# Altium schematic symbol library WCAP-FTX2.SchLib: 108 symbols (part 2 of 2)
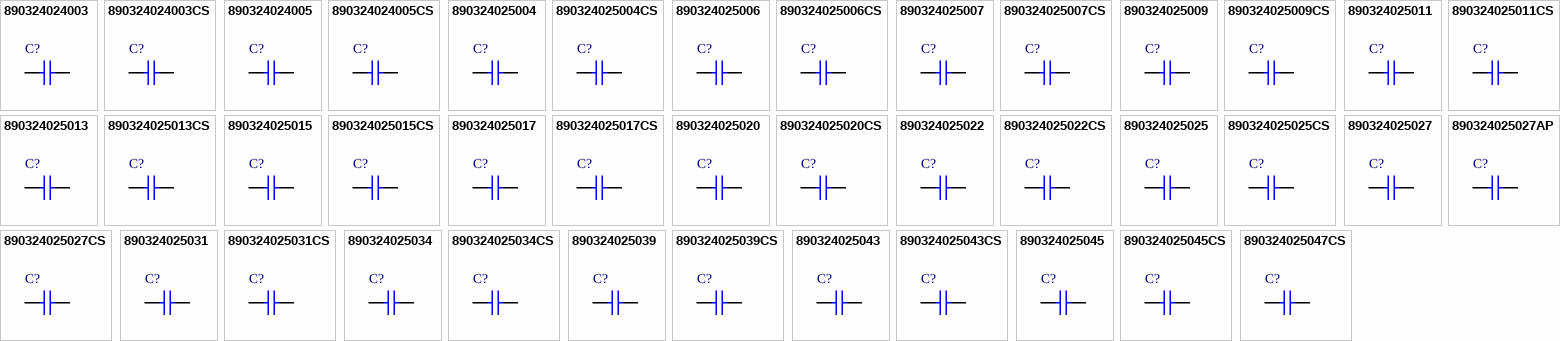
[diagram p3: symbols 890324024003 to 890324025047CS]

## 890324025015
designator C?, comment 82nF  (value not drawn)
WCAP-FTX2 Film Capacitor, THT, 18mm x 6mm x 12mm, 82nF, 275V; Manufacturer Part Number: 890324025015; Manufacturer: Wurth Elektronik; Dissipation Factor @1kHz: 0.1%; Insulation Resistance: 30Gohm; Rate of Voltage Rise: 290V/us; Rated Voltage: 275V (AC); Safety Class: X2; Category: Film Capacitors; Match Code: WCAP-FTX2; ComponentLink1Description: Website Link; ComponentLink1URL: https://www.we-online.com; ComponentLink2Description: Datasheet Link; ComponentLink2URL: https://www.we-online.com/components/products/datasheet/890324025015; Mount: Through Hole; Operating Temperature Min: -40degC; Operating Temperature Max: 105degC; Packaging: Carton; Length: 18mm; Width: 6mm; Height: 12mm; Capacitance: 82nF; Lead Pitch: 15mm
footprint WCAP-FTX2_L18W6H12
simulation model 890324025015_82nF
pins: 1, 2

## 890324025015CS
designator C?, comment 82nF  (value not drawn)
WCAP-FTX2 Film Capacitor, THT, 18mm x 6mm x 12mm, 82nF, 275V; Manufacturer Part Number: 890324025015CS; Manufacturer: Wurth Elektronik; Dissipation Factor @1kHz: 0.1%; Insulation Resistance: 30Gohm; Rate of Voltage Rise: 290V/us; Rated Voltage: 275V (AC); Safety Class: X2; Category: Film Capacitors; Match Code: WCAP-FTX2; ComponentLink1Description: Website Link; ComponentLink1URL: https://www.we-online.com; ComponentLink2Description: Datasheet Link; ComponentLink2URL: https://www.we-online.com/components/products/datasheet/890324025015CS; Mount: Through Hole; Operating Temperature Min: -40degC; Operating Temperature Max: 105degC; Packaging: Carton; Length: 18mm; Width: 6mm; Height: 12mm; Capacitance: 82nF; Lead Pitch: 15mm
footprint WCAP-FTX2_L18W6H12
simulation model 890324025015CS_82nF
pins: 1, 2

## 890324025017
designator C?, comment 100nF  (value not drawn)
WCAP-FTX2 Film Capacitor, THT, 18mm x 6mm x 12mm, 100nF, 275V; Manufacturer Part Number: 890324025017; Manufacturer: Wurth Elektronik; Dissipation Factor @1kHz: 0.1%; Insulation Resistance: 30Gohm; Rate of Voltage Rise: 300V/us; Rated Voltage: 275V (AC); Safety Class: X2; Category: Film Capacitors; Match Code: WCAP-FTX2; ComponentLink1Description: Website Link; ComponentLink1URL: https://www.we-online.com; ComponentLink2Description: Datasheet Link; ComponentLink2URL: https://www.we-online.com/components/products/datasheet/890324025017; Mount: Through Hole; Operating Temperature Min: -40degC; Operating Temperature Max: 105degC; Packaging: Carton; Length: 18mm; Width: 6mm; Height: 12mm; Capacitance: 100nF; Lead Pitch: 15mm
footprint WCAP-FTX2_L18W6H12
simulation model 890324025017_100nF
pins: 1, 2

## 890324025017CS
designator C?, comment 100nF  (value not drawn)
WCAP-FTX2 Film Capacitor, THT, 18mm x 6mm x 12mm, 100nF, 275V; Manufacturer Part Number: 890324025017CS; Manufacturer: Wurth Elektronik; Dissipation Factor @1kHz: 0.1%; Insulation Resistance: 30Gohm; Rate of Voltage Rise: 300V/us; Rated Voltage: 275V (AC); Safety Class: X2; Category: Film Capacitors; Match Code: WCAP-FTX2; ComponentLink1Description: Website Link; ComponentLink1URL: https://www.we-online.com; ComponentLink2Description: Datasheet Link; ComponentLink2URL: https://www.we-online.com/components/products/datasheet/890324025017CS; Mount: Through Hole; Operating Temperature Min: -40degC; Operating Temperature Max: 105degC; Packaging: Carton; Length: 18mm; Width: 6mm; Height: 12mm; Capacitance: 100nF; Lead Pitch: 15mm
footprint WCAP-FTX2_L18W6H12
simulation model 890324025017CS_100nF
pins: 1, 2

## 890324025020
designator C?, comment 120nF  (value not drawn)
WCAP-FTX2 Film Capacitor, THT, 18mm x 7.5mm x 13.5mm, 120nF, 275V; Manufacturer Part Number: 890324025020; Manufacturer: Wurth Elektronik; Dissipation Factor @1kHz: 0.1%; Insulation Resistance: 30Gohm; Rate of Voltage Rise: 300V/us; Rated Voltage: 275V (AC); Safety Class: X2; Category: Film Capacitors; Match Code: WCAP-FTX2; ComponentLink1Description: Website Link; ComponentLink1URL: https://www.we-online.com; ComponentLink2Description: Datasheet Link; ComponentLink2URL: https://www.we-online.com/components/products/datasheet/890324025020; Mount: Through Hole; Operating Temperature Min: -40degC; Operating Temperature Max: 105degC; Packaging: Carton; Length: 18mm; Width: 7.5mm; Height: 13.5mm; Capacitance: 120nF; Lead Pitch: 15mm
footprint WCAP-FTX2_L18W7.5H13.5
simulation model 890324025020_120nF
pins: 1, 2

## 890324025020CS
designator C?, comment 120nF  (value not drawn)
WCAP-FTX2 Film Capacitor, THT, 18mm x 7.5mm x 13.5mm, 120nF, 275V; Manufacturer Part Number: 890324025020CS; Manufacturer: Wurth Elektronik; Dissipation Factor @1kHz: 0.1%; Insulation Resistance: 30Gohm; Rate of Voltage Rise: 300V/us; Rated Voltage: 275V (AC); Safety Class: X2; Category: Film Capacitors; Match Code: WCAP-FTX2; ComponentLink1Description: Website Link; ComponentLink1URL: https://www.we-online.com; ComponentLink2Description: Datasheet Link; ComponentLink2URL: https://www.we-online.com/components/products/datasheet/890324025020CS; Mount: Through Hole; Operating Temperature Min: -40degC; Operating Temperature Max: 105degC; Packaging: Carton; Length: 18mm; Width: 7.5mm; Height: 13.5mm; Capacitance: 120nF; Lead Pitch: 15mm
footprint WCAP-FTX2_L18W7.5H13.5
simulation model 890324025020CS_120nF
pins: 1, 2

## 890324025022
designator C?, comment 150nF  (value not drawn)
WCAP-FTX2 Film Capacitor, THT, 18mm x 6mm x 12mm, 150nF, 275V; Manufacturer Part Number: 890324025022; Manufacturer: Wurth Elektronik; Dissipation Factor @1kHz: 0.1%; Insulation Resistance: 30Gohm; Rate of Voltage Rise: 210V/us; Rated Voltage: 275V (AC); Safety Class: X2; Category: Film Capacitors; Match Code: WCAP-FTX2; ComponentLink1Description: Website Link; ComponentLink1URL: https://www.we-online.com; ComponentLink2Description: Datasheet Link; ComponentLink2URL: https://www.we-online.com/components/products/datasheet/890324025022; Mount: Through Hole; Operating Temperature Min: -40degC; Operating Temperature Max: 105degC; Packaging: Carton; Length: 18mm; Width: 6mm; Height: 12mm; Capacitance: 150nF; Lead Pitch: 15mm
footprint WCAP-FTX2_L18W6H12
simulation model 890324025022_150nF
pins: 1, 2

## 890324025022CS
designator C?, comment 150nF  (value not drawn)
WCAP-FTX2 Film Capacitor, THT, 18mm x 6mm x 12mm, 150nF, 275V; Manufacturer Part Number: 890324025022CS; Manufacturer: Wurth Elektronik; Dissipation Factor @1kHz: 0.1%; Insulation Resistance: 30Gohm; Rate of Voltage Rise: 210V/us; Rated Voltage: 275V (AC); Safety Class: X2; Category: Film Capacitors; Match Code: WCAP-FTX2; ComponentLink1Description: Website Link; ComponentLink1URL: https://www.we-online.com; ComponentLink2Description: Datasheet Link; ComponentLink2URL: https://www.we-online.com/components/products/datasheet/890324025022CS; Mount: Through Hole; Operating Temperature Min: -40degC; Operating Temperature Max: 105degC; Packaging: Carton; Length: 18mm; Width: 6mm; Height: 12mm; Capacitance: 150nF; Lead Pitch: 15mm
footprint WCAP-FTX2_L18W6H12
simulation model 890324025022CS_150nF
pins: 1, 2

## 890324025025
designator C?, comment 180nF  (value not drawn)
WCAP-FTX2 Film Capacitor, THT, 18mm x 6mm x 12mm, 180nF, 275V; Manufacturer Part Number: 890324025025; Manufacturer: Wurth Elektronik; Dissipation Factor @1kHz: 0.1%; Insulation Resistance: 30Gohm; Rate of Voltage Rise: 230V/us; Rated Voltage: 275V (AC); Safety Class: X2; Category: Film Capacitors; Match Code: WCAP-FTX2; ComponentLink1Description: Website Link; ComponentLink1URL: https://www.we-online.com; ComponentLink2Description: Datasheet Link; ComponentLink2URL: https://www.we-online.com/components/products/datasheet/890324025025; Mount: Through Hole; Operating Temperature Min: -40degC; Operating Temperature Max: 105degC; Packaging: Carton; Length: 18mm; Width: 6mm; Height: 12mm; Capacitance: 180nF; Lead Pitch: 15mm
footprint WCAP-FTX2_L18W6H12
simulation model 890324025025_180nF
pins: 1, 2

## 890324025025CS
designator C?, comment 180nF  (value not drawn)
WCAP-FTX2 Film Capacitor, THT, 18mm x 6mm x 12mm, 180nF, 275V; Manufacturer Part Number: 890324025025CS; Manufacturer: Wurth Elektronik; Dissipation Factor @1kHz: 0.1%; Insulation Resistance: 30Gohm; Rate of Voltage Rise: 230V/us; Rated Voltage: 275V (AC); Safety Class: X2; Category: Film Capacitors; Match Code: WCAP-FTX2; ComponentLink1Description: Website Link; ComponentLink1URL: https://www.we-online.com; ComponentLink2Description: Datasheet Link; ComponentLink2URL: https://www.we-online.com/components/products/datasheet/890324025025CS; Mount: Through Hole; Operating Temperature Min: -40degC; Operating Temperature Max: 105degC; Packaging: Carton; Length: 18mm; Width: 6mm; Height: 12mm; Capacitance: 180nF; Lead Pitch: 15mm
footprint WCAP-FTX2_L18W6H12
simulation model 890324025025CS_180nF
pins: 1, 2

## 890324025027
designator C?, comment 220nF  (value not drawn)
WCAP-FTX2 Film Capacitor, THT, 18mm x 6mm x 11.5mm, 220nF, 275V; Manufacturer Part Number: 890324025027; Manufacturer: Wurth Elektronik; Dissipation Factor @1kHz: 0.1%; Insulation Resistance: 30Gohm; Rate of Voltage Rise: 180V/us; Rated Voltage: 275V (AC); Safety Class: X2; Category: Film Capacitors; Match Code: WCAP-FTX2; ComponentLink1Description: Website Link; ComponentLink1URL: https://www.we-online.com; ComponentLink2Description: Datasheet Link; ComponentLink2URL: https://www.we-online.com/components/products/datasheet/890324025027; Mount: Through Hole; Operating Temperature Min: -40degC; Operating Temperature Max: 105degC; Packaging: Carton; Length: 18mm; Width: 6mm; Height: 11.5mm; Capacitance: 220nF; Lead Pitch: 15mm
footprint WCAP-FTX2_L18W6H11.5
simulation model 890324025027_220nF
pins: 1, 2

## 890324025027AP
designator C?, comment 220nF  (value not drawn)
WCAP-FTX2 Film Capacitor, THT, 18mm x 6mm x 11.5mm, 220nF, 275V; Manufacturer Part Number: 890324025027AP; Manufacturer: Wurth Elektronik; Dissipation Factor @1kHz: 0.1%; Insulation Resistance: 30Gohm; Rate of Voltage Rise: 180V/us; Rated Voltage: 275V (AC); Safety Class: X2; Category: Film Capacitors; Match Code: WCAP-FTX2; ComponentLink1Description: Website Link; ComponentLink1URL: https://www.we-online.com; ComponentLink2Description: Datasheet Link; ComponentLink2URL: https://www.we-online.com/components/products/datasheet/890324025027AP; Mount: Through Hole; Operating Temperature Min: -40degC; Operating Temperature Max: 105degC; Packaging: Ammo Pack; Length: 18mm; Width: 6mm; Height: 11.5mm; Capacitance: 220nF; Lead Pitch: 15mm
footprint WCAP-FTX2_L18W6H11.5
simulation model 890324025027AP_220nF
pins: 1, 2

## 890324025027CS
designator C?, comment 220nF  (value not drawn)
WCAP-FTX2 Film Capacitor, THT, 18mm x 6mm x 11.5mm, 220nF, 275V; Manufacturer Part Number: 890324025027CS; Manufacturer: Wurth Elektronik; Dissipation Factor @1kHz: 0.1%; Insulation Resistance: 30Gohm; Rate of Voltage Rise: 180V/us; Rated Voltage: 275V (AC); Safety Class: X2; Category: Film Capacitors; Match Code: WCAP-FTX2; ComponentLink1Description: Website Link; ComponentLink1URL: https://www.we-online.com; ComponentLink2Description: Datasheet Link; ComponentLink2URL: https://www.we-online.com/components/products/datasheet/890324025027CS; Mount: Through Hole; Operating Temperature Min: -40degC; Operating Temperature Max: 105degC; Packaging: Carton; Length: 18mm; Width: 6mm; Height: 11.5mm; Capacitance: 220nF; Lead Pitch: 15mm
footprint WCAP-FTX2_L18W6H11.5
simulation model 890324025027CS_220nF
pins: 1, 2

## 890324025031
designator C?, comment 270nF  (value not drawn)
WCAP-FTX2 Film Capacitor, THT, 18mm x 7.5mm x 14.5mm, 270nF, 275V; Manufacturer Part Number: 890324025031; Manufacturer: Wurth Elektronik; Dissipation Factor @1kHz: 0.1%; Insulation Resistance: 30Gohm; Rate of Voltage Rise: 250V/us; Rated Voltage: 275V (AC); Safety Class: X2; Category: Film Capacitors; Match Code: WCAP-FTX2; ComponentLink1Description: Website Link; ComponentLink1URL: https://www.we-online.com; ComponentLink2Description: Datasheet Link; ComponentLink2URL: https://www.we-online.com/components/products/datasheet/890324025031; Mount: Through Hole; Operating Temperature Min: -40degC; Operating Temperature Max: 105degC; Packaging: Carton; Length: 18mm; Width: 7.5mm; Height: 14.5mm; Capacitance: 270nF; Lead Pitch: 15mm
footprint WCAP-FTX2_L18W7.5H14.5
simulation model 890324025031_270nF
pins: 1, 2

## 890324025031CS
designator C?, comment 270nF  (value not drawn)
WCAP-FTX2 Film Capacitor, THT, 18mm x 7.5mm x 14.5mm, 270nF, 275V; Manufacturer Part Number: 890324025031CS; Manufacturer: Wurth Elektronik; Dissipation Factor @1kHz: 0.1%; Insulation Resistance: 30Gohm; Rate of Voltage Rise: 250V/us; Rated Voltage: 275V (AC); Safety Class: X2; Category: Film Capacitors; Match Code: WCAP-FTX2; ComponentLink1Description: Website Link; ComponentLink1URL: https://www.we-online.com; ComponentLink2Description: Datasheet Link; ComponentLink2URL: https://www.we-online.com/components/products/datasheet/890324025031CS; Mount: Through Hole; Operating Temperature Min: -40degC; Operating Temperature Max: 105degC; Packaging: Carton; Length: 18mm; Width: 7.5mm; Height: 14.5mm; Capacitance: 270nF; Lead Pitch: 15mm
footprint WCAP-FTX2_L18W7.5H14.5
simulation model 890324025031CS_270nF
pins: 1, 2

## 890324025034
designator C?, comment 330nF  (value not drawn)
WCAP-FTX2 Film Capacitor, THT, 18mm x 8.5mm x 14.5mm, 330nF, 275V; Manufacturer Part Number: 890324025034; Manufacturer: Wurth Elektronik; Dissipation Factor @1kHz: 0.1%; Insulation Resistance: 30Gohm; Rate of Voltage Rise: 260V/us; Rated Voltage: 275V (AC); Safety Class: X2; Category: Film Capacitors; Match Code: WCAP-FTX2; ComponentLink1Description: Website Link; ComponentLink1URL: https://www.we-online.com; ComponentLink2Description: Datasheet Link; ComponentLink2URL: https://www.we-online.com/components/products/datasheet/890324025034; Mount: Through Hole; Operating Temperature Min: -40degC; Operating Temperature Max: 105degC; Packaging: Carton; Length: 18mm; Width: 8.5mm; Height: 14.5mm; Capacitance: 330nF; Lead Pitch: 15mm
footprint WCAP-FTX2_L18W8.5H14.5
simulation model 890324025034_330nF
pins: 1, 2

## 890324025034CS
designator C?, comment 330nF  (value not drawn)
WCAP-FTX2 Film Capacitor, THT, 18mm x 8.5mm x 14.5mm, 330nF, 275V; Manufacturer Part Number: 890324025034CS; Manufacturer: Wurth Elektronik; Dissipation Factor @1kHz: 0.1%; Insulation Resistance: 30Gohm; Rate of Voltage Rise: 260V/us; Rated Voltage: 275V (AC); Safety Class: X2; Category: Film Capacitors; Match Code: WCAP-FTX2; ComponentLink1Description: Website Link; ComponentLink1URL: https://www.we-online.com; ComponentLink2Description: Datasheet Link; ComponentLink2URL: https://www.we-online.com/components/products/datasheet/890324025034CS; Mount: Through Hole; Operating Temperature Min: -40degC; Operating Temperature Max: 105degC; Packaging: Carton; Length: 18mm; Width: 8.5mm; Height: 14.5mm; Capacitance: 330nF; Lead Pitch: 15mm
footprint WCAP-FTX2_L18W8.5H14.5
simulation model 890324025034CS_330nF
pins: 1, 2

## 890324025039
designator C?, comment 470nF  (value not drawn)
WCAP-FTX2 Film Capacitor, THT, 18mm x 8mm x 14mm, 470nF, 275V; Manufacturer Part Number: 890324025039; Manufacturer: Wurth Elektronik; Dissipation Factor @1kHz: 0.1%; Insulation Resistance: 21.28Gohm; Rate of Voltage Rise: 220V/us; Rated Voltage: 275V (AC); Safety Class: X2; Category: Film Capacitors; Match Code: WCAP-FTX2; ComponentLink1Description: Website Link; ComponentLink1URL: https://www.we-online.com; ComponentLink2Description: Datasheet Link; ComponentLink2URL: https://www.we-online.com/components/products/datasheet/890324025039; Mount: Through Hole; Operating Temperature Min: -40degC; Operating Temperature Max: 105degC; Packaging: Carton; Length: 18mm; Width: 8mm; Height: 14mm; Capacitance: 470nF; Lead Pitch: 15mm
footprint WCAP-FTX2_L18W8H14
simulation model 890324025039_470nF
pins: 1, 2

## 890324025039CS
designator C?, comment 470nF  (value not drawn)
WCAP-FTX2 Film Capacitor, THT, 18mm x 8mm x 14mm, 470nF, 275V; Manufacturer Part Number: 890324025039CS; Manufacturer: Wurth Elektronik; Dissipation Factor @1kHz: 0.1%; Insulation Resistance: 21.28Gohm; Rate of Voltage Rise: 220V/us; Rated Voltage: 275V (AC); Safety Class: X2; Category: Film Capacitors; Match Code: WCAP-FTX2; ComponentLink1Description: Website Link; ComponentLink1URL: https://www.we-online.com; ComponentLink2Description: Datasheet Link; ComponentLink2URL: https://www.we-online.com/components/products/datasheet/890324025039CS; Mount: Through Hole; Operating Temperature Min: -40degC; Operating Temperature Max: 105degC; Packaging: Carton; Length: 18mm; Width: 8mm; Height: 14mm; Capacitance: 470nF; Lead Pitch: 15mm
footprint WCAP-FTX2_L18W8H14
simulation model 890324025039CS_470nF
pins: 1, 2

## 890324025043
designator C?, comment 560nF  (value not drawn)
WCAP-FTX2 Film Capacitor, THT, 18mm x 9mm x 15mm, 560nF, 275V; Manufacturer Part Number: 890324025043; Manufacturer: Wurth Elektronik; Dissipation Factor @1kHz: 0.1%; Insulation Resistance: 17.86Gohm; Rate of Voltage Rise: 220V/us; Rated Voltage: 275V (AC); Safety Class: X2; Category: Film Capacitors; Match Code: WCAP-FTX2; ComponentLink1Description: Website Link; ComponentLink1URL: https://www.we-online.com; ComponentLink2Description: Datasheet Link; ComponentLink2URL: https://www.we-online.com/components/products/datasheet/890324025043; Mount: Through Hole; Operating Temperature Min: -40degC; Operating Temperature Max: 105degC; Packaging: Carton; Length: 18mm; Width: 9mm; Height: 15mm; Capacitance: 560nF; Lead Pitch: 15mm
footprint WCAP-FTX2_L18W9H15
simulation model 890324025043_560nF
pins: 1, 2

## 890324025043CS
designator C?, comment 560nF  (value not drawn)
WCAP-FTX2 Film Capacitor, THT, 18mm x 9mm x 15mm, 560nF, 275V; Manufacturer Part Number: 890324025043CS; Manufacturer: Wurth Elektronik; Dissipation Factor @1kHz: 0.1%; Insulation Resistance: 17.86Gohm; Rate of Voltage Rise: 220V/us; Rated Voltage: 275V (AC); Safety Class: X2; Category: Film Capacitors; Match Code: WCAP-FTX2; ComponentLink1Description: Website Link; ComponentLink1URL: https://www.we-online.com; ComponentLink2Description: Datasheet Link; ComponentLink2URL: https://www.we-online.com/components/products/datasheet/890324025043CS; Mount: Through Hole; Operating Temperature Min: -40degC; Operating Temperature Max: 105degC; Packaging: Carton; Length: 18mm; Width: 9mm; Height: 15mm; Capacitance: 560nF; Lead Pitch: 15mm
footprint WCAP-FTX2_L18W9H15
simulation model 890324025043CS_560nF
pins: 1, 2

## 890324025045
designator C?, comment 680nF  (value not drawn)
WCAP-FTX2 Film Capacitor, THT, 18mm x 10mm x 16mm, 680nF, 275V; Manufacturer Part Number: 890324025045; Manufacturer: Wurth Elektronik; Dissipation Factor @1kHz: 0.1%; Insulation Resistance: 14.71Gohm; Rate of Voltage Rise: 230V/us; Rated Voltage: 275V (AC); Safety Class: X2; Category: Film Capacitors; Match Code: WCAP-FTX2; ComponentLink1Description: Website Link; ComponentLink1URL: https://www.we-online.com; ComponentLink2Description: Datasheet Link; ComponentLink2URL: https://www.we-online.com/components/products/datasheet/890324025045; Mount: Through Hole; Operating Temperature Min: -40degC; Operating Temperature Max: 105degC; Packaging: Carton; Length: 18mm; Width: 10mm; Height: 16mm; Capacitance: 680nF; Lead Pitch: 15mm
footprint WCAP-FTX2_L18W10H16
simulation model 890324025045_680nF
pins: 1, 2

## 890324025045CS
designator C?, comment 680nF  (value not drawn)
WCAP-FTX2 Film Capacitor, THT, 18mm x 10mm x 16mm, 680nF, 275V; Manufacturer Part Number: 890324025045CS; Manufacturer: Wurth Elektronik; Dissipation Factor @1kHz: 0.1%; Insulation Resistance: 14.71Gohm; Rate of Voltage Rise: 230V/us; Rated Voltage: 275V (AC); Safety Class: X2; Category: Film Capacitors; Match Code: WCAP-FTX2; ComponentLink1Description: Website Link; ComponentLink1URL: https://www.we-online.com; ComponentLink2Description: Datasheet Link; ComponentLink2URL: https://www.we-online.com/components/products/datasheet/890324025045CS; Mount: Through Hole; Operating Temperature Min: -40degC; Operating Temperature Max: 105degC; Packaging: Carton; Length: 18mm; Width: 10mm; Height: 16mm; Capacitance: 680nF; Lead Pitch: 15mm
footprint WCAP-FTX2_L18W10H16
simulation model 890324025045CS_680nF
pins: 1, 2

## 890324025047CS
designator C?, comment 820nF  (value not drawn)
WCAP-FTX2 Film Capacitor, THT, 18mm x 10mm x 17.5mm, 820nF, 275V; Manufacturer Part Number: 890324025047CS; Manufacturer: Wurth Elektronik; Dissipation Factor @1kHz: 0.1%; Insulation Resistance: 12.2Gohm; Rate of Voltage Rise: 230V/us; Rated Voltage: 275V (AC); Safety Class: X2; Category: Film Capacitors; Match Code: WCAP-FTX2; ComponentLink1Description: Website Link; ComponentLink1URL: https://www.we-online.com; ComponentLink2Description: Datasheet Link; ComponentLink2URL: https://www.we-online.com/components/products/datasheet/890324025047CS; Mount: Through Hole; Operating Temperature Min: -40degC; Operating Temperature Max: 105degC; Packaging: Carton; Length: 18mm; Width: 10mm; Height: 17.5mm; Capacitance: 820nF; Lead Pitch: 15mm
footprint WCAP-FTX2_L18W10H17.5
simulation model 890324025047CS_820nF
pins: 1, 2

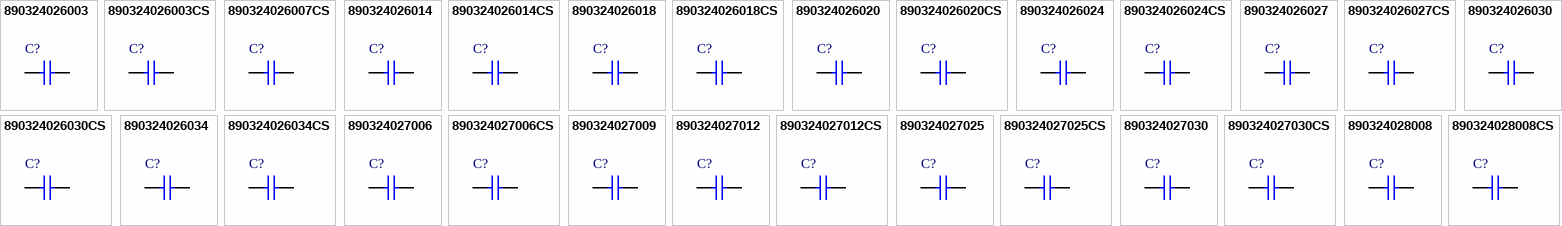
[diagram p2: symbols 890324026003 to 890324028008CS]

## 890324026003
designator C?, comment 220nF  (value not drawn)
WCAP-FTX2 Film Capacitor, THT, 26mm x 6mm x 15mm, 220nF, 275V; Manufacturer Part Number: 890324026003; Manufacturer: Wurth Elektronik; Dissipation Factor @1kHz: 0.1%; Insulation Resistance: 30Gohm; Rate of Voltage Rise: 160V/us; Rated Voltage: 275V (AC); Safety Class: X2; Category: Film Capacitors; Match Code: WCAP-FTX2; ComponentLink1Description: Website Link; ComponentLink1URL: https://www.we-online.com; ComponentLink2Description: Datasheet Link; ComponentLink2URL: https://www.we-online.com/components/products/datasheet/890324026003; Mount: Through Hole; Operating Temperature Min: -40degC; Operating Temperature Max: 105degC; Packaging: Carton; Length: 26mm; Width: 6mm; Height: 15mm; Capacitance: 220nF; Lead Pitch: 22.5mm
footprint WCAP-FTX2_L26W6H15
simulation model 890324026003_220nF
pins: 1, 2

## 890324026003CS
designator C?, comment 220nF  (value not drawn)
WCAP-FTX2 Film Capacitor, THT, 26mm x 6mm x 15mm, 220nF, 275V; Manufacturer Part Number: 890324026003CS; Manufacturer: Wurth Elektronik; Dissipation Factor @1kHz: 0.1%; Insulation Resistance: 30Gohm; Rate of Voltage Rise: 160V/us; Rated Voltage: 275V (AC); Safety Class: X2; Category: Film Capacitors; Match Code: WCAP-FTX2; ComponentLink1Description: Website Link; ComponentLink1URL: https://www.we-online.com; ComponentLink2Description: Datasheet Link; ComponentLink2URL: https://www.we-online.com/components/products/datasheet/890324026003CS; Mount: Through Hole; Operating Temperature Min: -40degC; Operating Temperature Max: 105degC; Packaging: Carton; Length: 26mm; Width: 6mm; Height: 15mm; Capacitance: 220nF; Lead Pitch: 22.5mm
footprint WCAP-FTX2_L26W6H15
simulation model 890324026003CS_220nF
pins: 1, 2

## 890324026007CS
designator C?, comment 330nF  (value not drawn)
WCAP-FTX2 Film Capacitor, THT, 26mm x 6mm x 12mm, 330nF, 275V; Manufacturer Part Number: 890324026007CS; Manufacturer: Wurth Elektronik; Dissipation Factor @1kHz: 0.1%; Insulation Resistance: 30Gohm; Rate of Voltage Rise: 140V/us; Rated Voltage: 275V (AC); Safety Class: X2; Category: Film Capacitors; Match Code: WCAP-FTX2; ComponentLink1Description: Website Link; ComponentLink1URL: https://www.we-online.com; ComponentLink2Description: Datasheet Link; ComponentLink2URL: https://www.we-online.com/components/products/datasheet/890324026007CS; Mount: Through Hole; Operating Temperature Min: -40degC; Operating Temperature Max: 105degC; Packaging: Carton; Length: 26mm; Width: 6mm; Height: 12mm; Capacitance: 330nF; Lead Pitch: 22.5mm
footprint WCAP-FTX2_L26W6H12
simulation model 890324026007CS_330nF
pins: 1, 2

## 890324026014
designator C?, comment 470nF  (value not drawn)
WCAP-FTX2 Film Capacitor, THT, 26mm x 7mm x 14.5mm, 470nF, 275V; Manufacturer Part Number: 890324026014; Manufacturer: Wurth Elektronik; Dissipation Factor @1kHz: 0.1%; Insulation Resistance: 21.28Gohm; Rate of Voltage Rise: 150V/us; Rated Voltage: 275V (AC); Safety Class: X2; Category: Film Capacitors; Match Code: WCAP-FTX2; ComponentLink1Description: Website Link; ComponentLink1URL: https://www.we-online.com; ComponentLink2Description: Datasheet Link; ComponentLink2URL: https://www.we-online.com/components/products/datasheet/890324026014; Mount: Through Hole; Operating Temperature Min: -40degC; Operating Temperature Max: 105degC; Packaging: Carton; Length: 26mm; Width: 7mm; Height: 14.5mm; Capacitance: 470nF; Lead Pitch: 22.5mm
footprint WCAP-FTX2_L26W7H14.5
simulation model 890324026014_470nF
pins: 1, 2

## 890324026014CS
designator C?, comment 470nF  (value not drawn)
WCAP-FTX2 Film Capacitor, THT, 26mm x 7mm x 14.5mm, 470nF, 275V; Manufacturer Part Number: 890324026014CS; Manufacturer: Wurth Elektronik; Dissipation Factor @1kHz: 0.1%; Insulation Resistance: 21.28Gohm; Rate of Voltage Rise: 150V/us; Rated Voltage: 275V (AC); Safety Class: X2; Category: Film Capacitors; Match Code: WCAP-FTX2; ComponentLink1Description: Website Link; ComponentLink1URL: https://www.we-online.com; ComponentLink2Description: Datasheet Link; ComponentLink2URL: https://www.we-online.com/components/products/datasheet/890324026014CS; Mount: Through Hole; Operating Temperature Min: -40degC; Operating Temperature Max: 105degC; Packaging: Carton; Length: 26mm; Width: 7mm; Height: 14.5mm; Capacitance: 470nF; Lead Pitch: 22.5mm
footprint WCAP-FTX2_L26W7H14.5
simulation model 890324026014CS_470nF
pins: 1, 2

## 890324026018
designator C?, comment 560nF  (value not drawn)
WCAP-FTX2 Film Capacitor, THT, 26mm x 7.5mm x 16.5mm, 560nF, 275V; Manufacturer Part Number: 890324026018; Manufacturer: Wurth Elektronik; Dissipation Factor @1kHz: 0.1%; Insulation Resistance: 17.86Gohm; Rate of Voltage Rise: 160V/us; Rated Voltage: 275V (AC); Safety Class: X2; Category: Film Capacitors; Match Code: WCAP-FTX2; ComponentLink1Description: Website Link; ComponentLink1URL: https://www.we-online.com; ComponentLink2Description: Datasheet Link; ComponentLink2URL: https://www.we-online.com/components/products/datasheet/890324026018; Mount: Through Hole; Operating Temperature Min: -40degC; Operating Temperature Max: 105degC; Packaging: Carton; Length: 26mm; Width: 7.5mm; Height: 16.5mm; Capacitance: 560nF; Lead Pitch: 22.5mm
footprint WCAP-FTX2_L26W7.5H16.5
simulation model 890324026018_560nF
pins: 1, 2

## 890324026018CS
designator C?, comment 560nF  (value not drawn)
WCAP-FTX2 Film Capacitor, THT, 26mm x 7.5mm x 16.5mm, 560nF, 275V; Manufacturer Part Number: 890324026018CS; Manufacturer: Wurth Elektronik; Dissipation Factor @1kHz: 0.1%; Insulation Resistance: 17.86Gohm; Rate of Voltage Rise: 160V/us; Rated Voltage: 275V (AC); Safety Class: X2; Category: Film Capacitors; Match Code: WCAP-FTX2; ComponentLink1Description: Website Link; ComponentLink1URL: https://www.we-online.com; ComponentLink2Description: Datasheet Link; ComponentLink2URL: https://www.we-online.com/components/products/datasheet/890324026018CS; Mount: Through Hole; Operating Temperature Min: -40degC; Operating Temperature Max: 105degC; Packaging: Carton; Length: 26mm; Width: 7.5mm; Height: 16.5mm; Capacitance: 560nF; Lead Pitch: 22.5mm
footprint WCAP-FTX2_L26W7.5H16.5
simulation model 890324026018CS_560nF
pins: 1, 2

## 890324026020
designator C?, comment 680nF  (value not drawn)
WCAP-FTX2 Film Capacitor, THT, 26mm x 7.5mm x 15mm, 680nF, 275V; Manufacturer Part Number: 890324026020; Manufacturer: Wurth Elektronik; Dissipation Factor @1kHz: 0.1%; Insulation Resistance: 14.71Gohm; Rate of Voltage Rise: 130V/us; Rated Voltage: 275V (AC); Safety Class: X2; Category: Film Capacitors; Match Code: WCAP-FTX2; ComponentLink1Description: Website Link; ComponentLink1URL: https://www.we-online.com; ComponentLink2Description: Datasheet Link; ComponentLink2URL: https://www.we-online.com/components/products/datasheet/890324026020; Mount: Through Hole; Operating Temperature Min: -40degC; Operating Temperature Max: 105degC; Packaging: Carton; Length: 26mm; Width: 7.5mm; Height: 15mm; Capacitance: 680nF; Lead Pitch: 22.5mm
footprint WCAP-FTX2_L26W7.5H15
simulation model 890324026020_680nF
pins: 1, 2

## 890324026020CS
designator C?, comment 680nF  (value not drawn)
WCAP-FTX2 Film Capacitor, THT, 26mm x 7.5mm x 15mm, 680nF, 275V; Manufacturer Part Number: 890324026020CS; Manufacturer: Wurth Elektronik; Dissipation Factor @1kHz: 0.1%; Insulation Resistance: 14.71Gohm; Rate of Voltage Rise: 130V/us; Rated Voltage: 275V (AC); Safety Class: X2; Category: Film Capacitors; Match Code: WCAP-FTX2; ComponentLink1Description: Website Link; ComponentLink1URL: https://www.we-online.com; ComponentLink2Description: Datasheet Link; ComponentLink2URL: https://www.we-online.com/components/products/datasheet/890324026020CS; Mount: Through Hole; Operating Temperature Min: -40degC; Operating Temperature Max: 105degC; Packaging: Carton; Length: 26mm; Width: 7.5mm; Height: 15mm; Capacitance: 680nF; Lead Pitch: 22.5mm
footprint WCAP-FTX2_L26W7.5H15
simulation model 890324026020CS_680nF
pins: 1, 2

## 890324026024
designator C?, comment 820nF  (value not drawn)
WCAP-FTX2 Film Capacitor, THT, 26mm x 9mm x 18mm, 820nF, 275V; Manufacturer Part Number: 890324026024; Manufacturer: Wurth Elektronik; Dissipation Factor @1kHz: 0.1%; Insulation Resistance: 12.2Gohm; Rate of Voltage Rise: 160V/us; Rated Voltage: 275V (AC); Safety Class: X2; Category: Film Capacitors; Match Code: WCAP-FTX2; ComponentLink1Description: Website Link; ComponentLink1URL: https://www.we-online.com; ComponentLink2Description: Datasheet Link; ComponentLink2URL: https://www.we-online.com/components/products/datasheet/890324026024; Mount: Through Hole; Operating Temperature Min: -40degC; Operating Temperature Max: 105degC; Packaging: Carton; Length: 26mm; Width: 9mm; Height: 18mm; Capacitance: 820nF; Lead Pitch: 22.5mm
footprint WCAP-FTX2_L26W9H18
simulation model 890324026024_820nF
pins: 1, 2

## 890324026024CS
designator C?, comment 820nF  (value not drawn)
WCAP-FTX2 Film Capacitor, THT, 26mm x 9mm x 18mm, 820nF, 275V; Manufacturer Part Number: 890324026024CS; Manufacturer: Wurth Elektronik; Dissipation Factor @1kHz: 0.1%; Insulation Resistance: 12.2Gohm; Rate of Voltage Rise: 160V/us; Rated Voltage: 275V (AC); Safety Class: X2; Category: Film Capacitors; Match Code: WCAP-FTX2; ComponentLink1Description: Website Link; ComponentLink1URL: https://www.we-online.com; ComponentLink2Description: Datasheet Link; ComponentLink2URL: https://www.we-online.com/components/products/datasheet/890324026024CS; Mount: Through Hole; Operating Temperature Min: -40degC; Operating Temperature Max: 105degC; Packaging: Carton; Length: 26mm; Width: 9mm; Height: 18mm; Capacitance: 820nF; Lead Pitch: 22.5mm
footprint WCAP-FTX2_L26W9H18
simulation model 890324026024CS_820nF
pins: 1, 2

## 890324026027
designator C?, comment 1uF  (value not drawn)
WCAP-FTX2 Film Capacitor, THT, 26mm x 11mm x 20mm, 1uF, 275V; Manufacturer Part Number: 890324026027; Manufacturer: Wurth Elektronik; Dissipation Factor @1kHz: 0.1%; Insulation Resistance: 10Gohm; Rate of Voltage Rise: 170V/us; Rated Voltage: 275V (AC); Safety Class: X2; Category: Film Capacitors; Match Code: WCAP-FTX2; ComponentLink1Description: Website Link; ComponentLink1URL: https://www.we-online.com; ComponentLink2Description: Datasheet Link; ComponentLink2URL: https://www.we-online.com/components/products/datasheet/890324026027; Mount: Through Hole; Operating Temperature Min: -40degC; Operating Temperature Max: 105degC; Packaging: Carton; Length: 26mm; Width: 11mm; Height: 20mm; Capacitance: 1uF; Lead Pitch: 22.5mm
footprint WCAP-FTX2_L26W11H20
simulation model 890324026027_1uF
pins: 1, 2

## 890324026027CS
designator C?, comment 1uF  (value not drawn)
WCAP-FTX2 Film Capacitor, THT, 26mm x 11mm x 20mm, 1uF, 275V; Manufacturer Part Number: 890324026027CS; Manufacturer: Wurth Elektronik; Dissipation Factor @1kHz: 0.1%; Insulation Resistance: 10Gohm; Rate of Voltage Rise: 170V/us; Rated Voltage: 275V (AC); Safety Class: X2; Category: Film Capacitors; Match Code: WCAP-FTX2; ComponentLink1Description: Website Link; ComponentLink1URL: https://www.we-online.com; ComponentLink2Description: Datasheet Link; ComponentLink2URL: https://www.we-online.com/components/products/datasheet/890324026027CS; Mount: Through Hole; Operating Temperature Min: -40degC; Operating Temperature Max: 105degC; Packaging: Carton; Length: 26mm; Width: 11mm; Height: 20mm; Capacitance: 1uF; Lead Pitch: 22.5mm
footprint WCAP-FTX2_L26W11H20
simulation model 890324026027CS_1uF
pins: 1, 2

## 890324026030
designator C?, comment 1.5uF  (value not drawn)
WCAP-FTX2 Film Capacitor, THT, 26mm x 10mm x 21mm, 1.5uF, 275V; Manufacturer Part Number: 890324026030; Manufacturer: Wurth Elektronik; Dissipation Factor @1kHz: 0.1%; Insulation Resistance: 6.67Gohm; Rate of Voltage Rise: 140V/us; Rated Voltage: 275V (AC); Safety Class: X2; Category: Film Capacitors; Match Code: WCAP-FTX2; ComponentLink1Description: Website Link; ComponentLink1URL: https://www.we-online.com; ComponentLink2Description: Datasheet Link; ComponentLink2URL: https://www.we-online.com/components/products/datasheet/890324026030; Mount: Through Hole; Operating Temperature Min: -40degC; Operating Temperature Max: 105degC; Packaging: Carton; Length: 26mm; Width: 10mm; Height: 21mm; Capacitance: 1.5uF; Lead Pitch: 22.5mm
footprint WCAP-FTX2_L26W10H21
simulation model 890324026030_1.5uF
pins: 1, 2

## 890324026030CS
designator C?, comment 1.5uF  (value not drawn)
WCAP-FTX2 Film Capacitor, THT, 26mm x 10mm x 21mm, 1.5uF, 275V; Manufacturer Part Number: 890324026030CS; Manufacturer: Wurth Elektronik; Dissipation Factor @1kHz: 0.1%; Insulation Resistance: 6.67Gohm; Rate of Voltage Rise: 140V/us; Rated Voltage: 275V (AC); Safety Class: X2; Category: Film Capacitors; Match Code: WCAP-FTX2; ComponentLink1Description: Website Link; ComponentLink1URL: https://www.we-online.com; ComponentLink2Description: Datasheet Link; ComponentLink2URL: https://www.we-online.com/components/products/datasheet/890324026030CS; Mount: Through Hole; Operating Temperature Min: -40degC; Operating Temperature Max: 105degC; Packaging: Carton; Length: 26mm; Width: 10mm; Height: 21mm; Capacitance: 1.5uF; Lead Pitch: 22.5mm
footprint WCAP-FTX2_L26W10H21
simulation model 890324026030CS_1.5uF
pins: 1, 2

## 890324026034
designator C?, comment 2.2uF  (value not drawn)
WCAP-FTX2 Film Capacitor, THT, 26mm x 15mm x 25mm, 2.2uF, 275V; Manufacturer Part Number: 890324026034; Manufacturer: Wurth Elektronik; Dissipation Factor @1kHz: 0.1%; Insulation Resistance: 4.55Gohm; Rate of Voltage Rise: 170V/us; Rated Voltage: 275V (AC); Safety Class: X2; Category: Film Capacitors; Match Code: WCAP-FTX2; ComponentLink1Description: Website Link; ComponentLink1URL: https://www.we-online.com; ComponentLink2Description: Datasheet Link; ComponentLink2URL: https://www.we-online.com/components/products/datasheet/890324026034; Mount: Through Hole; Operating Temperature Min: -40degC; Operating Temperature Max: 105degC; Packaging: Carton; Length: 26mm; Width: 15mm; Height: 25mm; Capacitance: 2.2uF; Lead Pitch: 22.5mm
footprint WCAP-FTX2_L26W15H25
simulation model 890324026034_2.2uF
pins: 1, 2

## 890324026034CS
designator C?, comment 2.2uF  (value not drawn)
WCAP-FTX2 Film Capacitor, THT, 26mm x 15mm x 25mm, 2.2uF, 275V; Manufacturer Part Number: 890324026034CS; Manufacturer: Wurth Elektronik; Dissipation Factor @1kHz: 0.1%; Insulation Resistance: 4.55Gohm; Rate of Voltage Rise: 170V/us; Rated Voltage: 275V (AC); Safety Class: X2; Category: Film Capacitors; Match Code: WCAP-FTX2; ComponentLink1Description: Website Link; ComponentLink1URL: https://www.we-online.com; ComponentLink2Description: Datasheet Link; ComponentLink2URL: https://www.we-online.com/components/products/datasheet/890324026034CS; Mount: Through Hole; Operating Temperature Min: -40degC; Operating Temperature Max: 105degC; Packaging: Carton; Length: 26mm; Width: 15mm; Height: 25mm; Capacitance: 2.2uF; Lead Pitch: 22.5mm
footprint WCAP-FTX2_L26W15H25
simulation model 890324026034CS_2.2uF
pins: 1, 2

## 890324027006
designator C?, comment 680nF  (value not drawn)
WCAP-FTX2 Film Capacitor, THT, 31mm x 10.5mm x 20mm, 680nF, 275V; Manufacturer Part Number: 890324027006; Manufacturer: Wurth Elektronik; Dissipation Factor @1kHz: 0.1%; Insulation Resistance: 14.71Gohm; Rate of Voltage Rise: 170V/us; Rated Voltage: 275V (AC); Safety Class: X2; Category: Film Capacitors; Match Code: WCAP-FTX2; ComponentLink1Description: Website Link; ComponentLink1URL: https://www.we-online.com; ComponentLink2Description: Datasheet Link; ComponentLink2URL: https://www.we-online.com/components/products/datasheet/890324027006; Mount: Through Hole; Operating Temperature Min: -40degC; Operating Temperature Max: 105degC; Packaging: Carton; Length: 31mm; Width: 10.5mm; Height: 20mm; Capacitance: 680nF; Lead Pitch: 27.5mm
footprint WCAP-FTX2_L31W10.5H20
simulation model 890324027006_680nF
pins: 1, 2

## 890324027006CS
designator C?, comment 680nF  (value not drawn)
WCAP-FTX2 Film Capacitor, THT, 31mm x 10.5mm x 20mm, 680nF, 275V; Manufacturer Part Number: 890324027006CS; Manufacturer: Wurth Elektronik; Dissipation Factor @1kHz: 0.1%; Insulation Resistance: 14.71Gohm; Rate of Voltage Rise: 170V/us; Rated Voltage: 275V (AC); Safety Class: X2; Category: Film Capacitors; Match Code: WCAP-FTX2; ComponentLink1Description: Website Link; ComponentLink1URL: https://www.we-online.com; ComponentLink2Description: Datasheet Link; ComponentLink2URL: https://www.we-online.com/components/products/datasheet/890324027006CS; Mount: Through Hole; Operating Temperature Min: -40degC; Operating Temperature Max: 105degC; Packaging: Carton; Length: 31mm; Width: 10.5mm; Height: 20mm; Capacitance: 680nF; Lead Pitch: 27.5mm
footprint WCAP-FTX2_L31W10.5H20
simulation model 890324027006CS_680nF
pins: 1, 2

## 890324027009
designator C?, comment 1uF  (value not drawn)
WCAP-FTX2 Film Capacitor, THT, 31mm x 8mm x 17mm, 1uF, 275V; Manufacturer Part Number: 890324027009; Manufacturer: Wurth Elektronik; Dissipation Factor @1kHz: 0.1%; Insulation Resistance: 10Gohm; Rate of Voltage Rise: 100V/us; Rated Voltage: 275V (AC); Safety Class: X2; Category: Film Capacitors; Match Code: WCAP-FTX2; ComponentLink1Description: Website Link; ComponentLink1URL: https://www.we-online.com; ComponentLink2Description: Datasheet Link; ComponentLink2URL: https://www.we-online.com/components/products/datasheet/890324027009; Mount: Through Hole; Operating Temperature Min: -40degC; Operating Temperature Max: 105degC; Packaging: Bulk and Carton; Length: 31mm; Width: 8mm; Height: 17mm; Capacitance: 1uF; Lead Pitch: 27.5mm
footprint WCAP-FTX2_L31W8H17
pins: 1, 2

## 890324027012
designator C?, comment 1.2uF  (value not drawn)
WCAP-FTX2 Film Capacitor, THT, 31mm x 13mm x 22mm, 1.2uF, 275V; Manufacturer Part Number: 890324027012; Manufacturer: Wurth Elektronik; Dissipation Factor @1kHz: 0.1%; Insulation Resistance: 8.33Gohm; Rate of Voltage Rise: 130V/us; Rated Voltage: 275V (AC); Safety Class: X2; Category: Film Capacitors; Match Code: WCAP-FTX2; ComponentLink1Description: Website Link; ComponentLink1URL: https://www.we-online.com; ComponentLink2Description: Datasheet Link; ComponentLink2URL: https://www.we-online.com/components/products/datasheet/890324027012; Mount: Through Hole; Operating Temperature Min: -40degC; Operating Temperature Max: 105degC; Packaging: Carton; Length: 31mm; Width: 13mm; Height: 22mm; Capacitance: 1.2uF; Lead Pitch: 27.5mm
footprint WCAP-FTX2_L31W13H22
simulation model 890324027012_1.2uF
pins: 1, 2

## 890324027012CS
designator C?, comment 1.2uF  (value not drawn)
WCAP-FTX2 Film Capacitor, THT, 31mm x 13mm x 22mm, 1.2uF, 275V; Manufacturer Part Number: 890324027012CS; Manufacturer: Wurth Elektronik; Dissipation Factor @1kHz: 0.1%; Insulation Resistance: 8.33Gohm; Rate of Voltage Rise: 130V/us; Rated Voltage: 275V (AC); Safety Class: X2; Category: Film Capacitors; Match Code: WCAP-FTX2; ComponentLink1Description: Website Link; ComponentLink1URL: https://www.we-online.com; ComponentLink2Description: Datasheet Link; ComponentLink2URL: https://www.we-online.com/components/products/datasheet/890324027012CS; Mount: Through Hole; Operating Temperature Min: -40degC; Operating Temperature Max: 105degC; Packaging: Carton; Length: 31mm; Width: 13mm; Height: 22mm; Capacitance: 1.2uF; Lead Pitch: 27.5mm
footprint WCAP-FTX2_L31W13H22
simulation model 890324027012CS_1.2uF
pins: 1, 2

## 890324027025
designator C?, comment 3.3uF  (value not drawn)
WCAP-FTX2 Film Capacitor, THT, 31mm x 15.5mm x 29mm, 3.3uF, 275V; Manufacturer Part Number: 890324027025; Manufacturer: Wurth Elektronik; Dissipation Factor @1kHz: 0.1%; Insulation Resistance: 3.03Gohm; Rate of Voltage Rise: 130V/us; Rated Voltage: 275V (AC); Safety Class: X2; Category: Film Capacitors; Match Code: WCAP-FTX2; ComponentLink1Description: Website Link; ComponentLink1URL: https://www.we-online.com; ComponentLink2Description: Datasheet Link; ComponentLink2URL: https://www.we-online.com/components/products/datasheet/890324027025; Mount: Through Hole; Operating Temperature Min: -40degC; Operating Temperature Max: 105degC; Packaging: Carton; Length: 31mm; Width: 15.5mm; Height: 29mm; Capacitance: 3.3uF; Lead Pitch: 27.5mm
footprint WCAP-FTX2_L31W15.5H29
simulation model 890324027025_3.3uF
pins: 1, 2

## 890324027025CS
designator C?, comment 3.3uF  (value not drawn)
WCAP-FTX2 Film Capacitor, THT, 31mm x 15.5mm x 29mm, 3.3uF, 275V; Manufacturer Part Number: 890324027025CS; Manufacturer: Wurth Elektronik; Dissipation Factor @1kHz: 0.1%; Insulation Resistance: 3.03Gohm; Rate of Voltage Rise: 130V/us; Rated Voltage: 275V (AC); Safety Class: X2; Category: Film Capacitors; Match Code: WCAP-FTX2; ComponentLink1Description: Website Link; ComponentLink1URL: https://www.we-online.com; ComponentLink2Description: Datasheet Link; ComponentLink2URL: https://www.we-online.com/components/products/datasheet/890324027025CS; Mount: Through Hole; Operating Temperature Min: -40degC; Operating Temperature Max: 105degC; Packaging: Carton; Length: 31mm; Width: 15.5mm; Height: 29mm; Capacitance: 3.3uF; Lead Pitch: 27.5mm
footprint WCAP-FTX2_L31W15.5H29
simulation model 890324027025CS_3.3uF
pins: 1, 2

## 890324027030
designator C?, comment 4.7uF  (value not drawn)
WCAP-FTX2 Film Capacitor, THT, 31mm x 19mm x 32.5mm, 4.7uF, 275V; Manufacturer Part Number: 890324027030; Manufacturer: Wurth Elektronik; Dissipation Factor @1kHz: 0.1%; Insulation Resistance: 2.13Gohm; Rate of Voltage Rise: 140V/us; Rated Voltage: 275V (AC); Safety Class: X2; Category: Film Capacitors; Match Code: WCAP-FTX2; ComponentLink1Description: Website Link; ComponentLink1URL: https://www.we-online.com; ComponentLink2Description: Datasheet Link; ComponentLink2URL: https://www.we-online.com/components/products/datasheet/890324027030; Mount: Through Hole; Operating Temperature Min: -40degC; Operating Temperature Max: 105degC; Packaging: Carton; Length: 31mm; Width: 19mm; Height: 32.5mm; Capacitance: 4.7uF; Lead Pitch: 27.5mm
footprint WCAP-FTX2_L31W19H32.5
pins: 1, 2

## 890324027030CS
designator C?, comment 4.7uF  (value not drawn)
WCAP-FTX2 Film Capacitor, THT, 31mm x 19mm x 32.5mm, 4.7uF, 275V; Manufacturer Part Number: 890324027030CS; Manufacturer: Wurth Elektronik; Dissipation Factor @1kHz: 0.1%; Insulation Resistance: 2.13Gohm; Rate of Voltage Rise: 140V/us; Rated Voltage: 275V (AC); Safety Class: X2; Category: Film Capacitors; Match Code: WCAP-FTX2; ComponentLink1Description: Website Link; ComponentLink1URL: https://www.we-online.com; ComponentLink2Description: Datasheet Link; ComponentLink2URL: https://www.we-online.com/components/products/datasheet/890324027030CS; Mount: Through Hole; Operating Temperature Min: -40degC; Operating Temperature Max: 105degC; Packaging: Carton; Length: 31mm; Width: 19mm; Height: 32.5mm; Capacitance: 4.7uF; Lead Pitch: 27.5mm
footprint WCAP-FTX2_L31W19H32.5
simulation model 890324027030CS_4.7uF
pins: 1, 2

## 890324028008
designator C?, comment 6.8uF  (value not drawn)
WCAP-FTX2 Film Capacitor, THT, 41.5mm x 22.5mm x 35.5mm, 6.8uF, 275V; Manufacturer Part Number: 890324028008; Manufacturer: Wurth Elektronik; Dissipation Factor @1kHz: 0.1%; Insulation Resistance: 1.47Gohm; Rate of Voltage Rise: 110V/us; Rated Voltage: 275V (AC); Safety Class: X2; Category: Film Capacitors; Match Code: WCAP-FTX2; ComponentLink1Description: Website Link; ComponentLink1URL: https://www.we-online.com; ComponentLink2Description: Datasheet Link; ComponentLink2URL: https://www.we-online.com/components/products/datasheet/890324028008; Mount: Through Hole; Operating Temperature Min: -40degC; Operating Temperature Max: 105degC; Packaging: Carton; Length: 41.5mm; Width: 22.5mm; Height: 35.5mm; Capacitance: 6.8uF; Lead Pitch: 37.5mm
footprint WCAP-FTX2_L41.5W22.5H35.5
simulation model 890324028008_6.8uF
pins: 1, 2

## 890324028008CS
designator C?, comment 6.8uF  (value not drawn)
WCAP-FTX2 Film Capacitor, THT, 41.5mm x 22.5mm x 35.5mm, 6.8uF, 275V; Manufacturer Part Number: 890324028008CS; Manufacturer: Wurth Elektronik; Dissipation Factor @1kHz: 0.1%; Insulation Resistance: 1.47Gohm; Rate of Voltage Rise: 110V/us; Rated Voltage: 275V (AC); Safety Class: X2; Category: Film Capacitors; Match Code: WCAP-FTX2; ComponentLink1Description: Website Link; ComponentLink1URL: https://www.we-online.com; ComponentLink2Description: Datasheet Link; ComponentLink2URL: https://www.we-online.com/components/products/datasheet/890324028008CS; Mount: Through Hole; Operating Temperature Min: -40degC; Operating Temperature Max: 105degC; Packaging: Carton; Length: 41.5mm; Width: 22.5mm; Height: 35.5mm; Capacitance: 6.8uF; Lead Pitch: 37.5mm
footprint WCAP-FTX2_L41.5W22.5H35.5
simulation model 890324028008CS_6.8uF
pins: 1, 2